# EAGLE library part DS90C402 (library jack_IC)
LVDS to single ended receiver http://www.ti.com/lit/ds/symlink/ds90c402.pdf
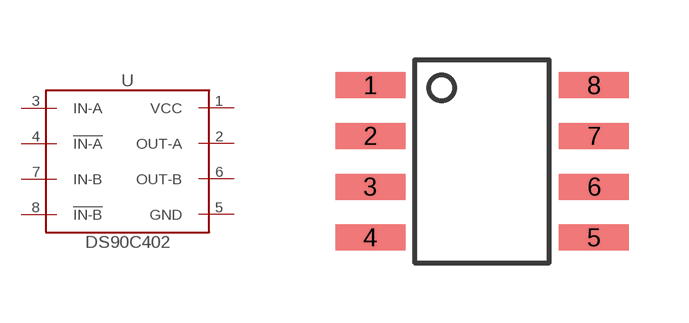
[diagram p5: symbol with the pads of SOIC_8; footprint SOIC_8]

Designator prefix U

## DS90C402  [SOIC_8]
1  VCC
2  OUT-A
3  IN-A
4  !IN-A
5  GND
6  OUT-B
7  IN-B
8  !IN-B

## Footprint SOIC_8 (pad centres in mm)
smd 1.75 x 0.65: 1 -2.8,1.905; 2 -2.8,0.635; 3 -2.8,-0.635; 4 -2.8,-1.905; 5 2.8,-1.905; 6 2.8,-0.635; 7 2.8,0.635; 8 2.8,1.905